# Altium footprint library miscellaneous.PcbLib: 34 footprints (part 3 of 3)
Each footprint in its own frame and in the unit in brackets; x right, y up, seen from the top. Pads: shape width x height; smd on the part's side, far side on the other; paste and mask are expansions set on the pad; w line width, h text height; cw(c..) or ccw(c..) is an arc to the next point about the centre after c.
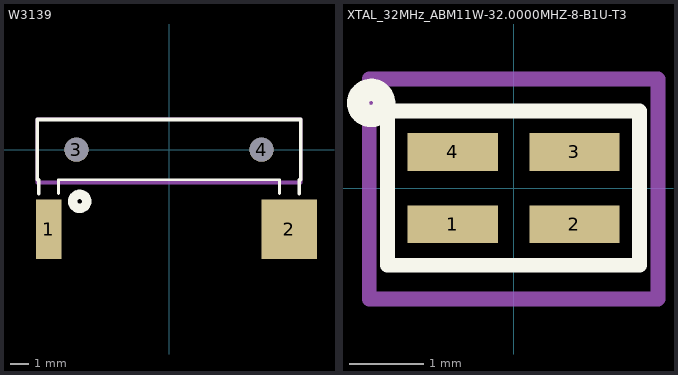
[diagram p2: the footprints below, top view; thin cyan lines are the x and y axes]

## W3139 [mil] "ANTENNA HELIX SMT ISM868/915"
pads (4):
  rect 54x126 smd paste+0 mask+0: 1(-256.1,-169.4)
  rect 118x126 smd paste+0 mask+0: 2(256.1,-169.4)
  round 51 hole 51 unplated: 3(-196.85,-0.1) 4(196.85,-0.1)
Top Overlay:
  circle w20: c-190,-110 r15
  lines w6: -234.9,-93.3 -234.9,-64 234.9,-64 234.9,-93.3
  lines w7.87: -280.5,-64 -280.5,64 280.5,64 280.5,-64 ; -276.9,-93.3 -276.9,-64 ; 276.9,-93.3 276.9,-64
Top Assembly:
  lines w7.87: -280,-70 -280,65 280,65 280,-70 -280,-70
  text ".Designator" at -52.17,-17.72 h35
3D body "User Library-w3139_201118.step": height 141.73, standoff -35.43, extent -275.59,-189.08 275.59,58.96

## XTAL_32MHz_ABM11W-32.0000MHZ-8-B1U-T3 [mil] "CRYSTAL 32.0000MHZ 8PF SMD"
pads (4):
  rect 48x20 smd paste+0 mask+0: 1(-32.32,-19.19) 2(32.32,-19.19) 3(32.32,19.19) 4(-32.32,19.19)
Top Overlay:
  circle w11.81: c-75.79,45.28 r6.96
  lines w7.87: -67,-41 -67,41 67,41 67,-41 -67,-41
Top Assembly:
  lines w7.87: -76.77,-59.05 -76.77,58.07 76.77,58.07 76.77,-59.05 -76.77,-59.05
  text ".Designator" at -52.17,-17.72 h35
3D body "CAP_ABM11W-32_0000MHZ-8-B1U-T3_ABR.step": height 20, standoff 0, extent -42.32,-30.19 42.33,30.21